# Altium schematic symbol library Sensors.SchLib: 6 symbols
Pins are listed as number, name and electrical type; pins without a type are passive.

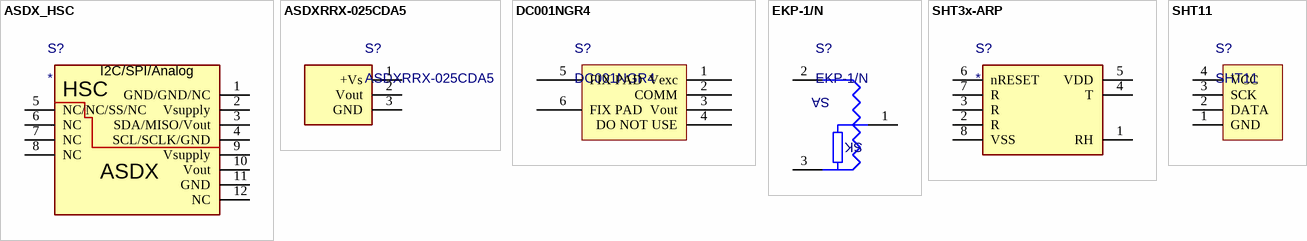
[diagram p0: symbols ASDX_HSC to SHT11]

## ASDX_HSC
designator S?
Value: *
pins: 1 GND/GND/NC, 2 Vsupply, 3 SDA/MISO/Vout, 4 SCL/SCLK/GND, 5 NC/NC/SS/NC, 6 NC, 7 NC, 8 NC, 9 Vsupply, 10 Vout, 11 GND, 12 NC
text: I2C/SPI/Analog; HSC; ASDX

## ASDXRRX-025CDA5
designator S?
Value: ASDXRRX-025CDA5
pins: 1 +Vs, 2 Vout, 3 GND

## DC001NGR4
designator S?
Value: DC001NGR4
pins: 1 Vexc, 2 COMM, 3 Vout, 4 DO NOT USE, 5 FIX PAD, 6 FIX PAD

## EKP-1/N
designator S?
Value: EKP-1/N
pins: 1, 2, 3
text: SA; SK

## SHT3x-ARP
designator S?
Value: *
pins: 1 RH, 2 R, 3 R, 4 T, 5 VDD, 6 nRESET, 7 R, 8 VSS

## SHT11
designator S?
Value: SHT11
pins: 1 GND, 2 DATA, 3 SCK, 4 VCC